# Altium footprint library SSOP-20_150mil.PcbLib: 1 footprints
Each footprint in its own frame and in the unit in brackets; x right, y up, seen from the top. Pads: shape width x height; smd on the part's side, far side on the other; paste and mask are expansions set on the pad; w line width, h text height; cw(c..) or ccw(c..) is an arc to the next point about the centre after c.
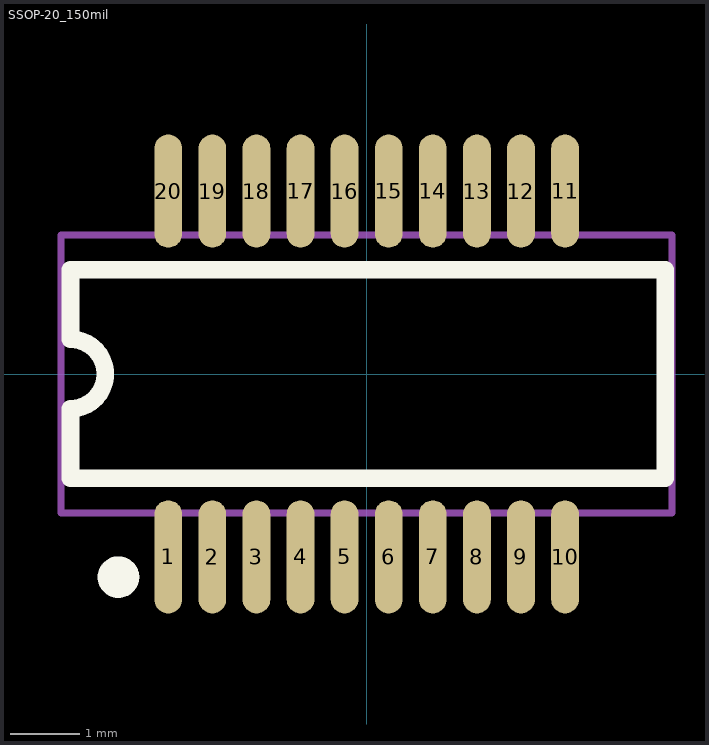
[diagram p0: the footprint, top view; thin cyan lines are the x and y axes]

## SSOP-20_150mil [mm]
pads (20):
  oval 0.4x1.63 smd mask+0.051: 1(-2.857,-2.635) 2(-2.222,-2.635) 3(-1.587,-2.635) 4(-0.953,-2.635) 5(-0.318,-2.635) 6(0.318,-2.635) 7(0.953,-2.635) 8(1.587,-2.635) 9(2.222,-2.635) 10(2.857,-2.635) 11(2.857,2.635) 12(2.222,2.635) 13(1.587,2.635) 14(0.953,2.635) 15(0.318,2.635) 16(-0.318,2.635) 17(-0.953,2.635) 18(-1.587,2.635) 19(-2.222,2.635) 20(-2.857,2.635)
Top Overlay:
  circle w0.3: c-3.575,-2.925 r0.15
  lines w0.254: -4.265,-1.5 -4.265,-0.5 ccw(c-4.265,0) -4.265,0.5 -4.265,1.5 4.3,1.5 4.3,-1.5 -4.265,-1.5
Mechanical 13:
  lines w0.1: -4.4,-2 -4.4,2 4.4,2 4.4,-2 -4.4,-2